# Altium footprint library AAT4900.PcbLib: 1 footprints
Each footprint in its own frame and in the unit in brackets; x right, y up, seen from the top. Pads: shape width x height; smd on the part's side, far side on the other; paste and mask are expansions set on the pad; w line width, h text height; cw(c..) or ccw(c..) is an arc to the next point about the centre after c.
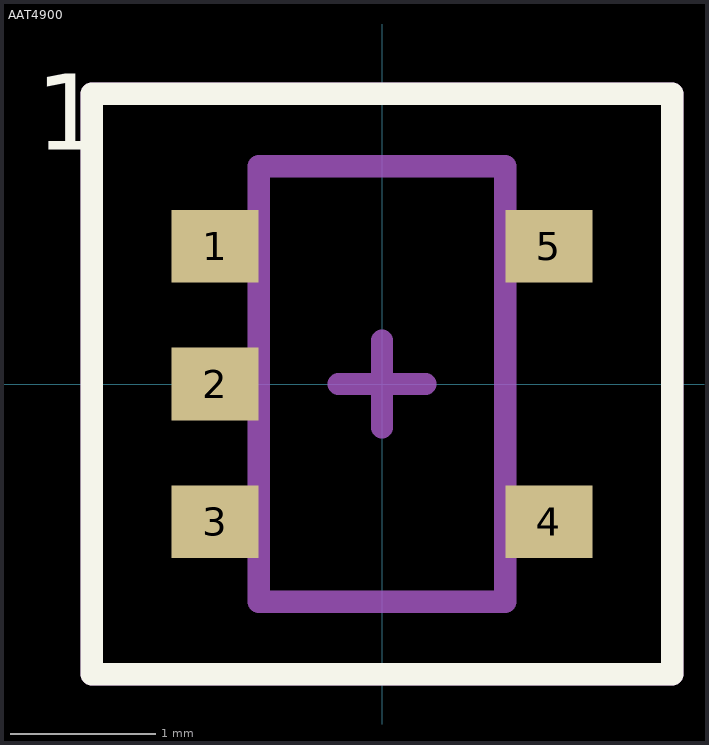
[diagram p0: the footprint, top view; thin cyan lines are the x and y axes]

## AAT4900 [mm] "SOT23-5"
pads (5):
  rect 0.6x0.5 smd: 1(-1.15,0.95) 2(-1.15,0) 3(-1.15,-0.95) 4(1.15,-0.95) 5(1.15,0.95)
Top Overlay:
  lines w0.154: -2,-2 -2,2 2,2 2,-2 -2,-2
  text "1" at -2.386,1.614 h0.52
Top Component Center:
  lines w0.154: -0.3,0 0.3,0 ; 0,-0.3 0,0.3
Top Assembly:
  lines w0.154: -0.85,-1.5 0.85,-1.5 0.85,1.5 -0.85,1.5 -0.85,-1.5
  text "1" at -1.586,1.614 h0.52
Top Courtyard:
  lines w0.154: -2,-2 -2,2 2,2 2,-2 -2,-2
3D body "MAX6316LUK29BX_V+.STEP": height 1.45, standoff 0, extent -1.4,-1.45 1.4,1.45